# Altium schematic symbol library IC_STF202.SchLib: 1 symbol
Pins are listed as number, name and electrical type; pins without a type are passive.

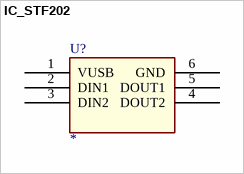
[diagram p0: symbol IC_STF202]

## IC_STF202
designator U?
pins: 1 VUSB (power), 2 DIN1, 3 DIN2, 4 DOUT2, 5 DOUT1, 6 GND (power)